# EAGLE library part XR-1015P (library exar)
Seventh order switched capacitor FILTER
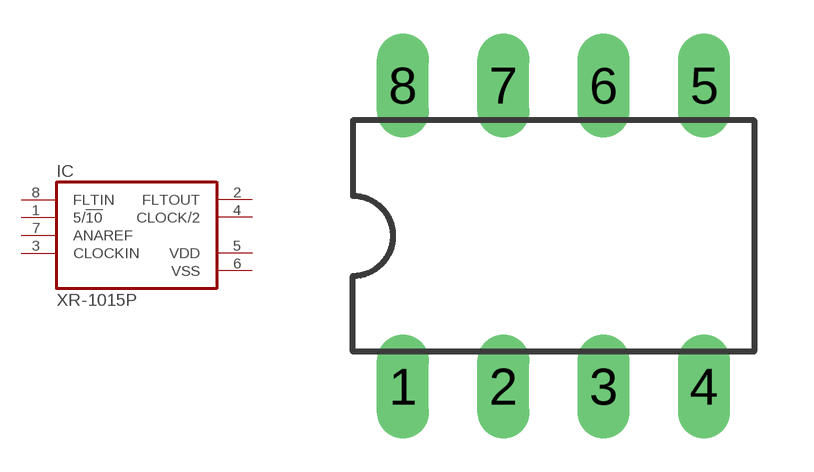
[diagram p28: symbol with the pads of DIL08; footprint DIL08]

Designator prefix IC

## XR-1015P (OC_FARNELL: unknown; OC_NEWARK: unknown)  [DIL08]
1  5/!10  in
2  FLTOUT  out
3  CLOCKIN  in
4  CLOCK/2  out
5  VDD  pwr
6  VSS  pwr
7  ANAREF  in
8  FLTIN  in

## Footprint DIL08 (pad centres in mm)
Dual In Line Package
drill 0.813 long: 1 -3.81,-3.81; 2 -1.27,-3.81; 3 1.27,-3.81; 4 3.81,-3.81; 5 3.81,3.81; 6 1.27,3.81; 7 -1.27,3.81; 8 -3.81,3.81